# EAGLE library part ICL7660CBAZA-T (library SamacSys_Parts)
Charge Pumps CMOS Voltage Converters Source: Datasheet <https://www.renesas.com/en-us/www/doc/datasheet/icl7660s-a.pdf>
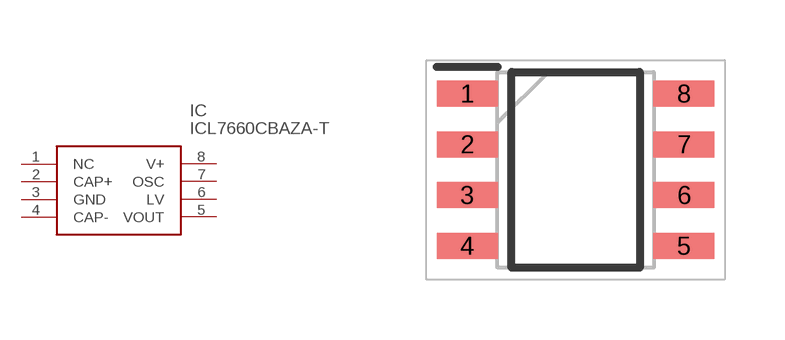
[diagram p114: symbol with the pads of SOIC127P600X175-8N; footprint SOIC127P600X175-8N]

Designator prefix IC

## ICL7660CBAZA-T (DESCRIPTION: Charge Pumps CMOS Voltage Converters; HEIGHT: 1.75mm; MANUFACTURER_NAME: Renesas Electronics; MANUFACTURER_PART_NUMBER: ICL7660CBAZA-T; MOUSER_PART_NUMBER: 968-ICL7660CBAZA-T; MOUSER_PRICE-STOCK: https://www.mouser.co.uk/ProductDetail/Renesas-Intersil/ICL7660CBAZA-T?qs=9fLuogzTs8IgQwA5x5QxYQ%3D%3D)  [SOIC127P600X175-8N]
1  NC  nc
2  CAP+
3  GND
4  CAP-
5  VOUT
6  LV
7  OSC
8  V+

## Footprint SOIC127P600X175-8N (pad centres in mm)
SO8N 8-lead plastic small outline, 150 mils body width
smd 1.525 x 0.65: 1 -2.712,1.905; 2 -2.712,0.635; 3 -2.712,-0.635; 4 -2.712,-1.905; 5 2.712,-1.905; 6 2.712,-0.635; 7 2.712,0.635; 8 2.712,1.905